# Altium schematic symbol library SEN0373.SchLib: 1 symbol
Pins are listed as number, name and electrical type; pins without a type are passive.

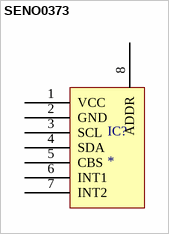
[diagram p0: symbol SENO0373]

## SENO0373
designator IC?
pins: 1 VCC, 2 GND, 3 SCL, 4 SDA, 5 CBS, 6 INT1, 7 INT2, 8 ADDR